# Altium schematic symbol library SCHOTTKY_20V_3A_SMB.SchLib: 1 symbol
Pins are listed as number, name and electrical type; pins without a type are passive.

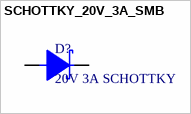
[diagram p0: symbol SCHOTTKY_20V_3A_SMB]

## SCHOTTKY_20V_3A_SMB
designator D?, comment 20V 3A SCHOTTKY
Diode Schottky 20V 3A 2-Pin SMB T/R; Manufacturer: Diodes; Manufacturer Part Number: B320B-13-F; Number of Terminals/Pins: 2; Package Body Material: Plastic; Diode Element Material: SILICON; Max Reverse Current: 500uA; Peak Non-Repetitive Surge Current: 100A; Element Configuration: Single; Forward Voltage: 500mV; Number of Elements: 1; Polarity: Standard; Capacitance: 250pF; Application(s): EFFICIENCY; Diode Type: RECTIFIER; Time @ Peak Reflow Temperature-Max (s): 5s; Supplier 1: Digi-Key; RoHS: Yes; Category: Schottky Diodes; Stock 1: 1260; Pricing 1: 1=0.43000, 10=0.37100, 100=0.27720, 500=0.21780, 1000=0.16830 (USD); Mount: Surface Mount; Case/Package: SMB; Number of Pins: 2; Weight: 0.00328oz; Contact Plating: Tin,Matte; Package Shape: Rectangular; Terminal Finish: Tin; Min Operating Temperature: -55°C; Max Operating Temperature: 150°C; Forward Current: 3A; Max Repetitive Reverse Voltage (Vrrm): 20V; Packaging: Tape and Reel; Package Quantity: 3000; Average Rectified Current: 3A; Max Forward Surge Current (Ifsm): 100A; Termination: SMD/SMT; Voltage Rating (DC): 20V; Current Rating: 3A; Output Current: 3A; Max Reverse Voltage (DC): 20V; Series: -; JESD-30 Code: R-PDSO-C2; Terminal Form: C BEND; Terminal Position: DUAL; Number of Phases: 1; Surface Mount: Yes; Moisture Sensitivity Level: 1; Technology: SCHOTTKY; Peak Reflow Temperature (Cel): 245°C; Length: 4.57mm; Width: 3.94mm; Height: 2.5mm; Radiation Hardening: No; Lead Free: Lead Free; ComponentLink1URL: https://datasheet.ciiva.com/26949/getdatasheetpartid-143396-26949350.pdf?src-supplier=Verical; ComponentLink1Description: https://datasheet.ciiva.com/26949/getdatasheetpartid-143396-26949350.pdf?src-supplier=Verical; ComponentLink2URL: https://datasheet.ciiva.com/19477/1589540-19477593.pdf?src-supplier=Jameco; ComponentLink2Description: https://datasheet.ciiva.com/19477/1589540-19477593.pdf?src-supplier=Jameco; ComponentLink3URL: https://datasheet.ciiva.com/26788/b320b-13-f-26788850.pdf?src-supplier=IIIC; ComponentLink3Description: https://datasheet.ciiva.com/26788/b320b-13-f-26788850.pdf?src-supplier=IIIC; ComponentLink4URL: https://datasheet.ciiva.com/914/ds30924-914408.pdf?src-supplier=Digi-Key; ComponentLink4Description: https://datasheet.ciiva.com/914/ds30924-914408.pdf?src-supplier=Digi-Key; ComponentLink5URL: https://datasheet.ciiva.com/914/ds30924-914409.pdf?src-supplier=Digi-Key; ComponentLink5Description: https://datasheet.ciiva.com/914/ds30924-914409.pdf?src-supplier=Digi-Key; ComponentLink6URL: https://datasheet.ciiva.com/914/ds30924-914410.pdf?src-supplier=Digi-Key; ComponentLink6Description: https://datasheet.ciiva.com/914/ds30924-914410.pdf?src-supplier=Digi-Key; ComponentLink7URL: https://datasheet.ciiva.com/25946/ds30924-25946725.pdf?src-supplier=Avnet+Europe; ComponentLink7Description: https://datasheet.ciiva.com/25946/ds30924-25946725.pdf?src-supplier=Avnet+Europe; Supplier Part Number 1: B320B-FDICT-ND
footprint SCHOTTKY_20V_3A_SMB
pins: 1 ANODE, 2 CATHODE